# Altium footprint library SparkFun-PowerIC.PCBLIB: 69 footprints (part 5 of 5)
Each footprint in its own frame and in the unit in brackets; x right, y up, seen from the top. Pads: shape width x height; smd on the part's side, far side on the other; paste and mask are expansions set on the pad; w line width, h text height; cw(c..) or ccw(c..) is an arc to the next point about the centre after c.
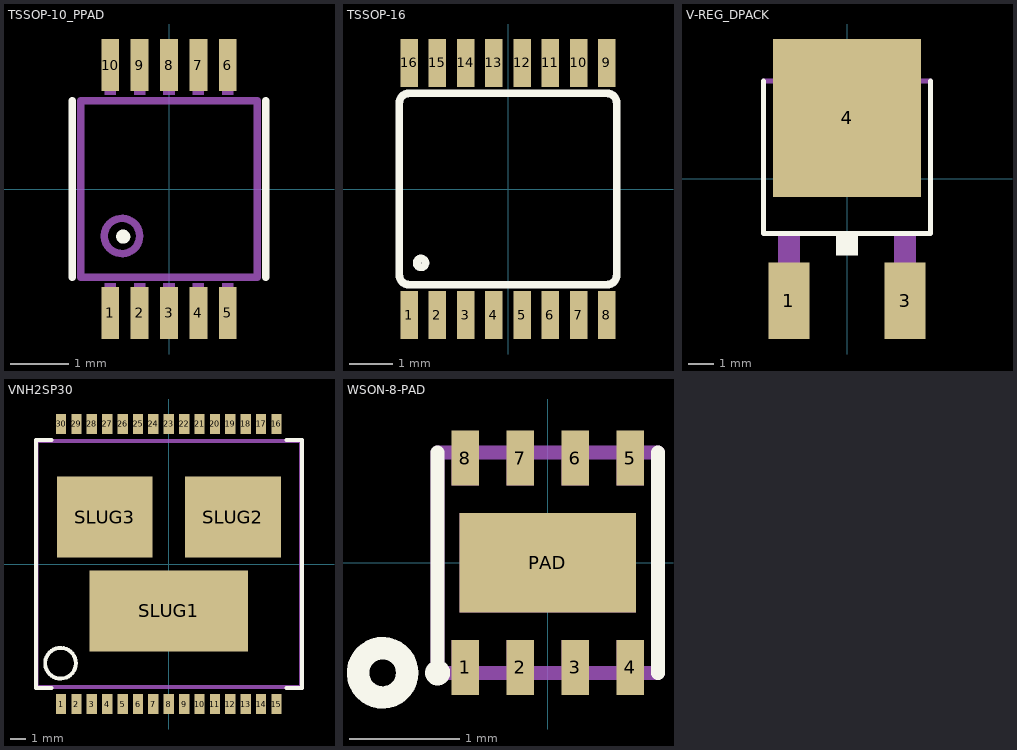
[diagram p4: the footprints below, top view; thin cyan lines are the x and y axes]

## TSSOP-10_PPAD [mil]
pads (10):
  rect 12.01x35 smd: 1(-39.37,-83.05) 2(-19.69,-83.05) 3(0,-83.05) 4(19.69,-83.05) 5(39.37,-83.05) 6(39.37,83.05) 7(19.69,83.05) 8(0,83.05) 9(-19.69,83.05) 10(-39.37,83.05)
Top Overlay:
  circle w5: c-30.69,-31.94 r2.23
  lines w5: -64.99,-59.06 -64.99,59.06 ; 64.99,-59.06 64.99,59.06
Mechanical 16:
  circle w5: c-31.5,-31.5 r11.81
  rectangle: -43.31,62.99 -35.43,96.46
  rectangle: -23.62,62.99 -15.75,96.46
  rectangle: -3.94,62.99 3.94,96.46
  rectangle: 15.75,62.99 23.62,96.46
  rectangle: 35.43,62.99 43.31,96.46
  rectangle: -43.31,-96.46 -35.43,-62.99
  rectangle: -23.62,-96.46 -15.75,-62.99
  rectangle: -3.94,-96.46 3.94,-62.99
  rectangle: 15.75,-96.46 23.62,-62.99
  rectangle: 35.43,-96.46 43.31,-62.99
  lines w5: -59.06,-59.06 -59.06,59.06 59.06,59.06 59.06,-59.06 -59.06,-59.06

## TSSOP-16 [mm]
pads (16):
  rect 0.4x1.1 smd: 1(-2.275,-2.9) 2(-1.625,-2.9) 3(-0.975,-2.9) 4(-0.325,-2.9) 5(0.325,-2.9) 6(0.975,-2.9) 7(1.625,-2.9) 8(2.275,-2.9) 9(2.275,2.9) 10(1.625,2.9) 11(0.975,2.9) 12(0.325,2.9) 13(-0.325,2.9) 14(-0.975,2.9) 15(-1.625,2.9) 16(-2.275,2.9)
Top Overlay:
  circle w0.178: c-2,-1.7 r0.1
  lines w0.178: -2.5,-1.976 ccw(c-2.276,-1.976) -2.276,-2.2 2.276,-2.2 ccw(c2.276,-1.976) 2.5,-1.976 2.5,1.976 ccw(c2.276,1.976) 2.276,2.2 -2.276,2.2 ccw(c-2.276,1.976) -2.5,1.976 -2.5,-1.976
Mechanical 16:
  rectangle: 0.175,-3.2 0.475,-2.6
  rectangle: -0.475,-3.2 -0.175,-2.6
  rectangle: -1.125,-3.2 -0.825,-2.6
  rectangle: -1.775,-3.2 -1.475,-2.6
  rectangle: 0.825,-3.2 1.125,-2.6
  rectangle: 1.475,-3.2 1.775,-2.6
  rectangle: 2.125,-3.2 2.425,-2.6
  rectangle: -2.425,-3.2 -2.125,-2.6
  region: -0.175,3.2 -0.475,3.2 -0.475,2.6 -0.175,2.6
  region: 0.475,3.2 0.175,3.2 0.175,2.6 0.475,2.6
  region: 1.125,3.2 0.825,3.2 0.825,2.6 1.125,2.6
  region: 1.775,3.2 1.475,3.2 1.475,2.6 1.775,2.6
  region: -0.825,3.2 -1.125,3.2 -1.125,2.6 -0.825,2.6
  region: -1.475,3.2 -1.775,3.2 -1.775,2.6 -1.475,2.6
  region: -2.125,3.2 -2.425,3.2 -2.425,2.6 -2.125,2.6
  region: 2.425,3.2 2.125,3.2 2.125,2.6 2.425,2.6

## V-REG_DPACK [mm]
pads (3):
  rect 1.6x3 smd: 1(-2.28,-4.8) 3(2.28,-4.8)
  rect 5.8x6.2 smd: 4(0,2.38)
Top Overlay:
  rectangle: -0.432,-3.023 0.432,-2.261
  lines w0.203: -3.277,3.835 -3.277,-2.159 3.277,-2.159 3.277,3.835
Mechanical 16:
  rectangle: -2.718,-5.156 -1.854,-2.261
  rectangle: 1.854,-5.156 2.718,-2.261
  region: 0,0 0.254,0 0.254,0.254 0,0.254
  lines w0.203: -3.277,3.835 3.277,3.835 ; -2.565,3.937 -2.565,4.648 -2.108,5.105 2.108,5.105 2.565,4.648 2.565,3.937 -2.565,3.937

## VNH2SP30 [mm]
pads (33):
  rect 0.67x1.3 smd: 1(-7,-9.1) 2(-6,-9.1) 3(-5,-9.1) 4(-4,-9.1) 5(-3,-9.1) 6(-2,-9.1) 7(-1,-9.1) 8(0,-9.1) 9(1,-9.1) 10(2,-9.1) 11(3,-9.1) 12(4,-9.1) 13(5,-9.1) 14(6,-9.1) 15(7,-9.1) 16(7,9.1) 17(6,9.1) 18(5,9.1) 19(4,9.1) 20(3,9.1) 21(2,9.1) 22(1,9.1) 23(0,9.1) 24(-1,9.1) 25(-2,9.1) 26(-3,9.1) 27(-4,9.1) 28(-5,9.1) 29(-6,9.1) 30(-7,9.1)
  rect 10.3x5.25 smd: SLUG1(0,-3.05)
  rect 6.23x5.25 smd: SLUG2(4.165,3.05) SLUG3(-4.165,3.05)
Top Overlay:
  circle w0.254: c-7.035,-6.45 r1
  lines w0.254: -7.635,-8.05 -8.635,-8.05 -8.635,8.05 -7.635,8.05 ; 7.665,-8.05 8.665,-8.05 8.665,8.05 7.665,8.05
Mechanical 16:
  lines w0.254: -8.6,-8 8.6,-8 8.6,8 -8.6,8 -8.6,-8

## WSON-8-PAD [mm]
pads (9):
  rect 0.25x0.5 smd: 1(-0.75,-0.95) 2(-0.25,-0.95) 3(0.25,-0.95) 4(0.75,-0.95) 5(0.75,0.95) 6(0.25,0.95) 7(-0.25,0.95) 8(-0.75,0.95)
  rect 1.6x0.9 smd: PAD(0,0)
Top Overlay:
  circle w0.127: c-1,-1 r0.05
  circle w0.203: c-1.5,-1 r0.224
  lines w0.127: -1,-1 -1,1 ; 1,-1 1,1
Top Paste:
  rectangle: -0.65,-0.35 0.65,0.35
Mechanical 16:
  circle w0.127: c-1.5,-1 r0.224
  rectangle: -0.8,-0.45 0.8,0.45
  rectangle: -0.375,-1 -0.125,-0.7
  rectangle: -0.875,-1 -0.625,-0.7
  rectangle: 0.125,-1 0.375,-0.7
  rectangle: 0.625,-1 0.875,-0.7
  region: 0.375,1 0.125,1 0.125,0.7 0.375,0.7
  region: 0.875,1 0.625,1 0.625,0.7 0.875,0.7
  region: -0.125,1 -0.375,1 -0.375,0.7 -0.125,0.7
  region: -0.625,1 -0.875,1 -0.875,0.7 -0.625,0.7
  lines w0.127: -1,-1 -1,1 1,1 1,-1 -1,-1